# Altium footprint library Manu.PcbLib: 82 footprints (part 3 of 6)
Each footprint in its own frame and in the unit in brackets; x right, y up, seen from the top. Pads: shape width x height; smd on the part's side, far side on the other; paste and mask are expansions set on the pad; w line width, h text height; cw(c..) or ccw(c..) is an arc to the next point about the centre after c.
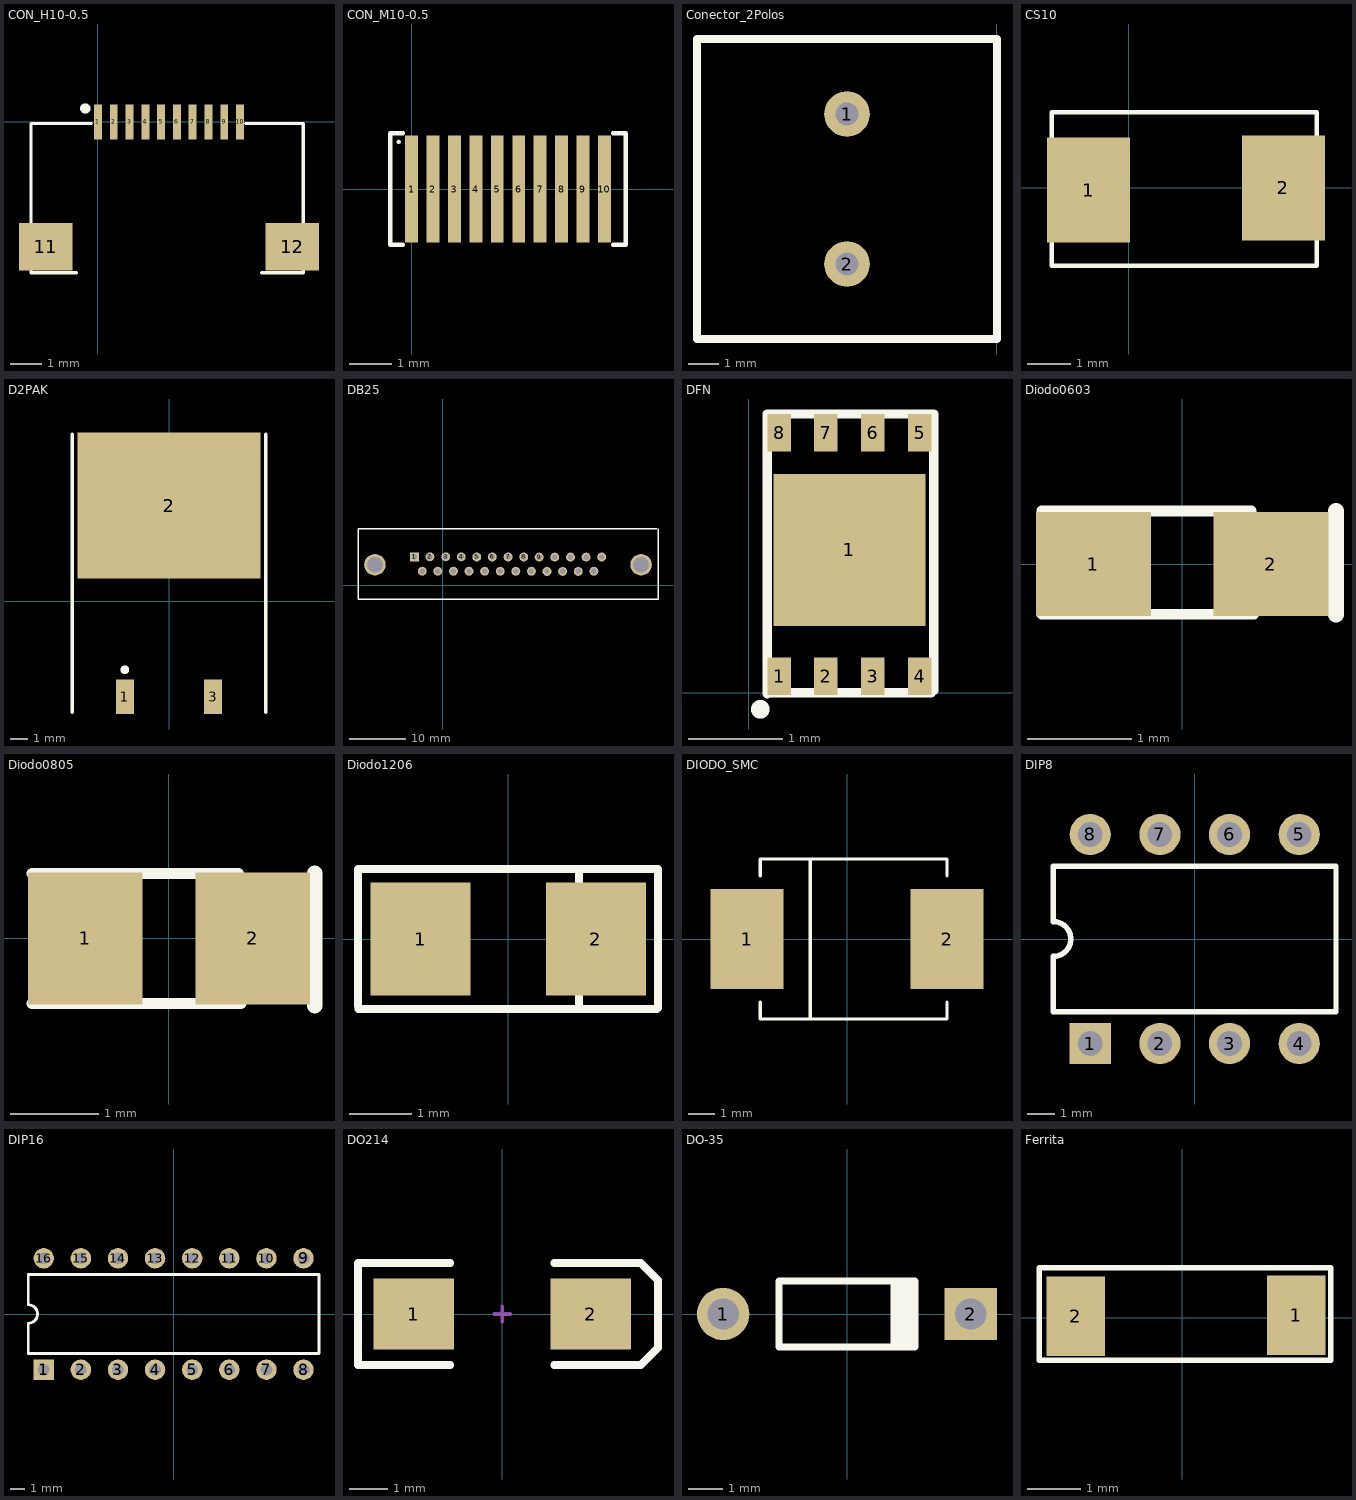
[diagram p2: the footprints below, top view; thin cyan lines are the x and y axes]

## CON_H10-0.5 [mm] "CON10-0.5 hembra cinta plana"
height 3.1
pads (12):
  rect 0.25x1.1 smd: 1(0,0) 2(0.5,0) 3(1,0) 4(1.5,0) 5(2,0) 6(2.5,0) 7(3,0) 8(3.5,0) 9(4,0) 10(4.5,0)
  rect 1.7x1.5 smd: 11(-1.65,-3.95) 12(6.15,-3.95)
Top Overlay:
  circle w0.254: c-0.4,0.425 r0.035
  lines w0.1: -0.675,-4.775 -2.125,-4.775 -2.125,-0.05 -0.2,-0.05 ; 4.675,-0.05 6.5,-0.05 6.5,-4.775 5.175,-4.775

## CON_M10-0.5 [mm] "CON10-0.5 cinta plana"
height 0.041
pads (11):
  rect 0.3x2.5 smd: 1(0,0) 2(0.5,0) 3(1,0) 4(1.5,0) 5(2,0) 6(2.5,0) 7(3,0) 8(3.5,0) 9(4,0) 10(4.5,0)
  round 0.1 on Top Overlay: 9(-0.3,1.1)
Top Overlay:
  lines w0.1: -0.2,-1.3 -0.5,-1.3 -0.5,1.3 -0.2,1.3 ; 4.7,-1.3 5,-1.3 5,1.3 4.7,1.3

## Conector_2Polos [mil] "Alimentacion 2 Polos"
pads (2):
  round 60 hole 30: 1(-196.85,787.4) 2(-196.85,590.55)
Top Overlay:
  lines w10: -1.97,492.13 -393.7,492.13 -393.7,885.83 0,885.83 0,492.13

## CS10 [mm] "Footprint Cristal"
pads (2):
  rect 1.9x2.4 smd: 1(-0.914,-0.051) 2(3.531,0)
Top Overlay:
  lines w0.1: -1.753,-1.773 -1.753,1.725 ; -1.733,-1.778 4.267,-1.778 ; -1.733,1.727 4.267,1.727 ; 4.293,-1.773 4.293,1.725

## D2PAK [mm] "D2-PAK/TO-263-AB; 3 Leads (1 Cropped); Body 15.5 (inc. leads) x 10.5 mm (LxW max)"
height 4.69
pads (3):
  rect 1.05x2 smd: 1(-2.54,-5.5) 3(2.54,-5.5)
  rect 10.55x8.4 smd: 2(0,5.5)
Top Overlay:
  circle w0.25: c-2.54,-3.95 r0.125
  lines w0.2: -5.575,-6.4 -5.575,9.6 ; 5.575,-6.4 5.575,9.6

## DB25 [mm] "DB25"
height 0.041
pads (27):
  rect 1.575x1.575 hole 0.965 unplated: 1(-5,5)
  round 1.575 hole 0.965 unplated: 2(-2.231,5) 3(0.563,5) 4(3.331,5) 5(6.075,4.975) 6(8.844,4.975) 7(11.638,4.975) 8(14.406,4.975) 9(17.15,4.95) 10(19.919,4.95) 11(22.713,4.95) 12(25.481,4.95) 13(28.244,4.975) 14(-3.603,2.46) 15(-0.834,2.46) 16(1.934,2.46) 17(4.703,2.46) 18(7.472,2.435) 19(10.241,2.435) 20(13.009,2.435) 21(15.778,2.435) 22(18.547,2.41) 23(21.316,2.41) 24(24.084,2.41) 25(26.872,2.435)
  round 3.81 hole 2.794 unplated: ""(-12,3.6) ""(35.244,3.6)
Top Overlay:
  lines w0.254: 38,10 -15,10 -15,-2.54 38.244,-2.54 38.244,10
Bottom Overlay:
  lines w0.254: -15,-2.54 -3.603,-2.54

## DFN [mm] "8 Patillas"
height 0.9
pads (9):
  rect 0.25x0.4 smd: 1(0.325,0.175) 2(0.825,0.175) 3(1.325,0.175) 4(1.825,0.175) 5(1.825,2.775) 6(1.325,2.775) 7(0.825,2.775) 8(0.325,2.775)
  rect 1.62x1.62 smd: 1(1.075,1.525)
Top Overlay:
  circle w0.1: c0.125,-0.175 r0.05
  lines w0.1: 0.2,-0.008 0.2,2.975 ; 0.2,0 0.637,0 1.513,0 1.95,0 ; 1.975,0.025 1.975,2.975 0.2,2.975 ; 0.2,2.975 0.2,2.975

## Diodo0603 [mm] "Tamaño con polaridad 0603"
height 1.35
pads (2):
  rect 1.1x1 smd: 1(-0.85,0) 2(0.85,0)
Top Overlay:
  lines w0.102: -1.346,-0.483 0.686,-0.483 ; -1.346,0.508 0.66,0.508
  lines w0.152: 1.473,-0.483 1.473,0.508

## Diodo0805 [mm] "Tamaño con polaridad 0805"
height 2.54
pads (2):
  rect 1.3x1.5 smd: 1(-0.95,0) 2(0.95,0)
Top Overlay:
  lines w0.127: -1.549,-0.737 0.813,-0.737 ; -1.549,0.737 0.787,0.737
  lines w0.178: 1.651,-0.762 1.651,0.737

## Diodo1206 [mm] "Tamaño con polaridad 1206"
height 2.54
pads (2):
  rect 1.6x1.8 smd: 1(-1.4,0) 2(1.4,0)
Top Overlay:
  lines w0.127: -2.4,-1.07 -2.4,1.12 ; -2.39,-1.12 1.13,-1.12 1.13,1.12 -2.37,1.12 ; 1.12,-1.12 2.37,-1.12 2.39,-1.1 2.39,1.12 1.15,1.12

## DIODO_SMC [mil] "Magnetic-Core Inductor with Winding Polarity Marking; 2 Leads"
pads (2):
  rect 110x150 smd: 1(-150,0) 2(150,0)
Top Overlay:
  lines w5: -130,-95 -130,-120 150,-120 150,-95 ; -130,95 -130,120 150,120 150,95 ; -55,-120 -55,120
Mechanical 1:
  lines w1: -130,-120 150,-120 ; -130,120 150,120

## DIP8 [mm] "DIP; 8 Leads; Row Spacing 7.62 mm; Pitch 2.54 mm"
height 5.33
pads (8):
  rect 1.5x1.5 hole 0.9: 1(-3.81,-3.81)
  round 1.5 hole 0.9: 2(-1.27,-3.81) 3(1.27,-3.81) 4(3.81,-3.81) 5(3.81,3.81) 6(1.27,3.81) 7(-1.27,3.81) 8(-3.81,3.81)
Top Overlay:
  lines w0.2: -5.15,-2.65 -5.15,-0.635 ccw(c-5.15,0) -5.15,0.635 -5.15,2.65 5.15,2.65 5.15,-2.65 -5.15,-2.65

## DIP16 [mm] "DIP; 16 Leads; Row Spacing 7.62 mm; Pitch 2.54 mm"
height 5.08
pads (16):
  rect 1.4x1.4 hole 0.8: 1(-8.89,-3.81)
  round 1.4 hole 0.8: 2(-6.35,-3.81) 3(-3.81,-3.81) 4(-1.27,-3.81) 5(1.27,-3.81) 6(3.81,-3.81) 7(6.35,-3.81) 8(8.89,-3.81) 9(8.89,3.81) 10(6.35,3.81) 11(3.81,3.81) 12(1.27,3.81) 13(-1.27,3.81) 14(-3.81,3.81) 15(-6.35,3.81) 16(-8.89,3.81)
Top Overlay:
  lines w0.2: -9.95,-2.7 -9.95,-0.635 ccw(c-9.95,0) -9.95,0.635 -9.95,2.7 9.95,2.7 9.95,-2.7 -9.95,-2.7

## DO214 [mm] "DO-214-AC/SMA; 2 C-Bend Leads; Body 5.3 x 2.6 mm, inc. leads (LxW)"
height 2.3
pads (2):
  rect 2.1x1.85 smd: 1(-2.3,0) 2(2.3,0)
Top Overlay:
  lines w0.2: -1.35,-1.325 -3.75,-1.325 -3.75,1.325 -1.35,1.325 ; 1.35,-1.325 3.6,-1.325 4.05,-0.875 4.05,0.875 3.6,1.325 1.35,1.325
Mechanical 1:
  lines w0.1: -0.2,0 0.2,0 ; 0,-0.2 0,0.2

## DO-35 [mm] "Diode, Axial; Body 3.8 x 1.9 mm (LxDia. max), Lead Dia. 0.53 mm (max)"
height 1.9
pads (2):
  round 1.5 hole 0.9: 1(-3.55,0)
  rect 1.5x1.5 hole 0.9: 2(3.55,0)
Top Overlay:
  rectangle: 1.25,-0.95 2.05,0.95
  lines w0.2: 1.95,-0.95 -1.95,-0.95 -1.95,0.95 1.95,0.95

## Ferrita [mm]
pads (2):
  rect 1.1x1.5 smd: 1(2.15,0.05) 2(-2.01,0.03)
Top Overlay:
  lines w0.1: -2.7,-0.8 -2.7,0.95 2.8,0.95 2.8,-0.8 -2.7,-0.8